# Altium footprint library Texas_Instruments_TPD3E001DRLR.PcbLib: 1 footprints
Each footprint in its own frame and in the unit in brackets; x right, y up, seen from the top. Pads: shape width x height; smd on the part's side, far side on the other; paste and mask are expansions set on the pad; w line width, h text height; cw(c..) or ccw(c..) is an arc to the next point about the centre after c.
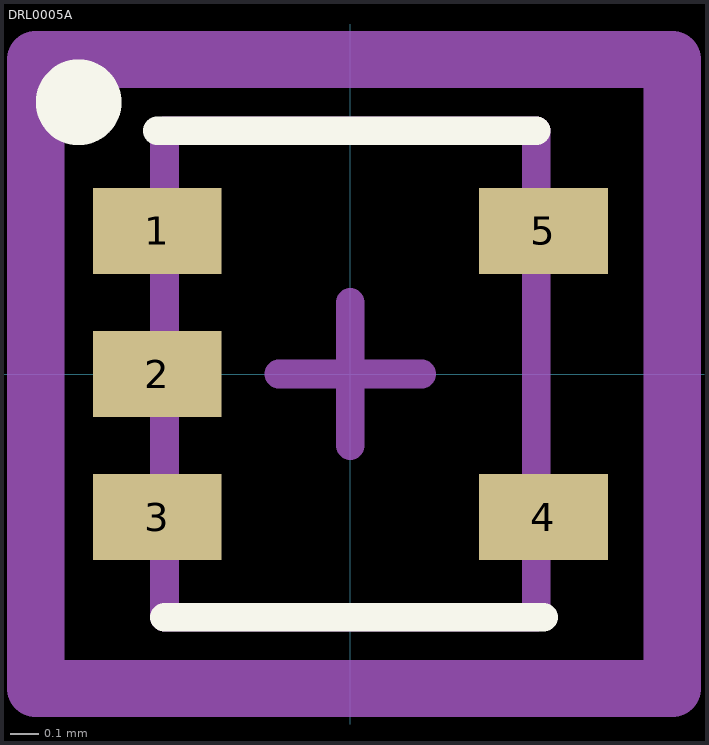
[diagram p0: the footprint, top view; thin cyan lines are the x and y axes]

## DRL0005A [mm]
height 0.6
pads (5):
  rect 0.45x0.3 smd: 1(-0.675,0.5) 2(-0.675,0) 3(-0.675,-0.5) 4(0.675,-0.5) 5(0.675,0.5)
Top Overlay:
  circle w0.25: c-0.95,0.95 r0.025
  lines w0.1: -0.675,0.85 0.65,0.85 ; -0.65,-0.85 0.675,-0.85
Mechanical 10 (Mech10):
  lines w0.2: -1.1,-1.1 1.125,-1.1 1.125,1.1 -1.1,1.1 -1.1,-1.1
  text "'.Designator'" at 0,0 h0.8
Mechanical 13:
  lines w0.1: -0.65,-0.85 -0.65,0.85 0.65,0.85 0.65,-0.85 -0.65,-0.85
Mechanical 15:
  lines w0.05: -1.1,-1.1 -1.1,1.1 1.125,1.1 1.125,-1.1 -1.1,-1.1
  lines w0.1: -0.25,0 0.25,0 ; 0,-0.25 0,0.25
3D body "sot-553.stp": height 0.5, standoff 0, extent -0.8,-0.8 0.8,0.8